# EAGLE library part NEM_22POL (library con-nem)
NEM / PLUX22
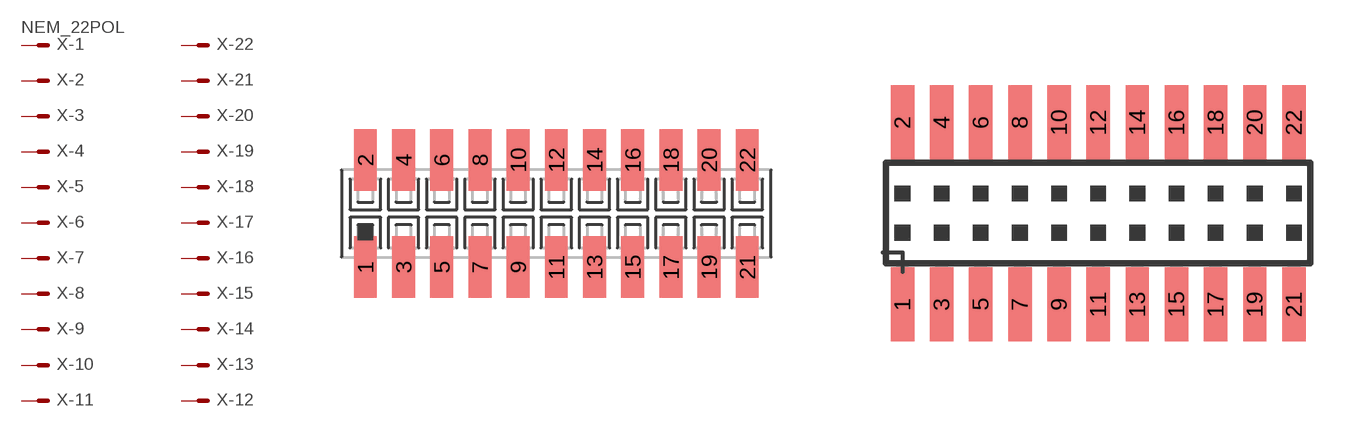
[diagram p3: symbol with the pads of 1296-22; footprints 1296-22, 1365-22]

Designator prefix X; gates -1=MVAL -2=M-1 -3=M-1 -4=M-1 -5=M-1 -6=M-1 -7=M-1 -8=M-1 -9=M-1 -10=M-1 -12=M-1 -13=M-1 -14=M-1 -15=M-1 -16=M-1 -17=M-1 -18=M-1 -19=M-1 -20=M-1 -21=M-1 -22=M-1 -11=M-1

## NEM_22POLNARROW  [1296-22]
1  -1:S  pas
2  -22:S  pas
3  -2:S  pas
4  -21:S  pas
5  -3:S  pas
6  -20:S  pas
7  -4:S  pas
8  -19:S  pas
9  -5:S  pas
10  -18:S  pas
11  -6:S  pas
12  -17:S  pas
13  -7:S  pas
14  -16:S  pas
15  -8:S  pas
16  -15:S  pas
17  -9:S  pas
18  -14:S  pas
19  -10:S  pas
20  -13:S  pas
21  -11:S  pas
22  -12:S  pas

## NEM_22POLWIDE  [1365-22]
Pads as for 1296-22

## Footprint 1296-22 (pad centres in mm)
1.27mm SINGLE ROW FEMALE SOCKET Source: http://www.leotronics.co.uk/Conexcon/Data%20Sheets/sec.%20A/1296ing.pdf
smd 0.76 x 2.05: 1 -6.35,-1.78; 2 -6.35,1.78; 3 -5.08,-1.78; 4 -5.08,1.78; 5 -3.81,-1.78; 6 -3.81,1.78; 7 -2.54,-1.78; 8 -2.54,1.78; 9 -1.27,-1.78; 10 -1.27,1.78; 11 0,-1.78; 12 0,1.78; 13 1.27,-1.78; 14 1.27,1.78; 15 2.54,-1.78; 16 2.54,1.78; 17 3.81,-1.78; 18 3.81,1.78; 19 5.08,-1.78; 20 5.08,1.78; 21 6.35,-1.78; 22 6.35,1.78

## Footprint 1365-22 (pad centres in mm)
DUAL ROW STRAIGHT HEADER 1364 SERIES. 1.27mm x 1.27mm. Without Fixing Post. SMT Source: http://www.leotronics.co.uk/Conexcon/
smd 0.76 x 2.4: 1 -6.35,-2.95; 2 -6.35,2.95; 3 -5.08,-2.95; 4 -5.08,2.95; 5 -3.81,-2.95; 6 -3.81,2.95; 7 -2.54,-2.95; 8 -2.54,2.95; 9 -1.27,-2.95; 10 -1.27,2.95; 11 0,-2.95; 12 0,2.95; 13 1.27,-2.95; 14 1.27,2.95; 15 2.54,-2.95; 16 2.54,2.95; 17 3.81,-2.95; 18 3.81,2.95; 19 5.08,-2.95; 20 5.08,2.95; 21 6.35,-2.95; 22 6.35,2.95